# Altium schematic symbol library INFINITY.Inductor.SchLib: 5 symbols
Pins are listed as number, name and electrical type; pins without a type are passive.

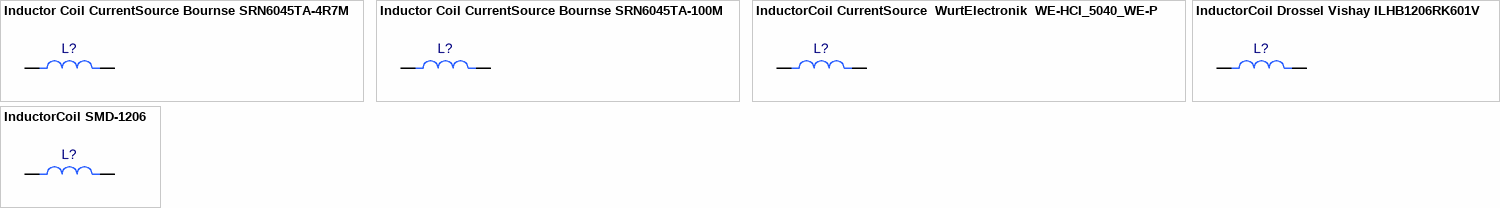
[diagram p0: symbols Inductor Coil CurrentSource Bournse SRN6045TA-4R7M to InductorCoil SMD-1206]

## Inductor Coil CurrentSource Bournse SRN6045TA-4R7M
designator L?
pins: 1, 2

## Inductor Coil CurrentSource Bournse SRN6045TA-100M
designator L?
pins: 1, 2

## InductorCoil CurrentSource  WurtElectronik  WE-HCI_5040_WE-PERM 2 size_5040
designator L?
pins: 1, 2

## InductorCoil Drossel Vishay ILHB1206RK601V
designator L?
pins: 1, 2

## InductorCoil SMD-1206
designator L?
pins: 1, 2